# Altium footprint library coil_1.PcbLib: 9 footprints
Each footprint in its own frame and in the unit in brackets; x right, y up, seen from the top. Pads: shape width x height; smd on the part's side, far side on the other; paste and mask are expansions set on the pad; w line width, h text height; cw(c..) or ccw(c..) is an arc to the next point about the centre after c.
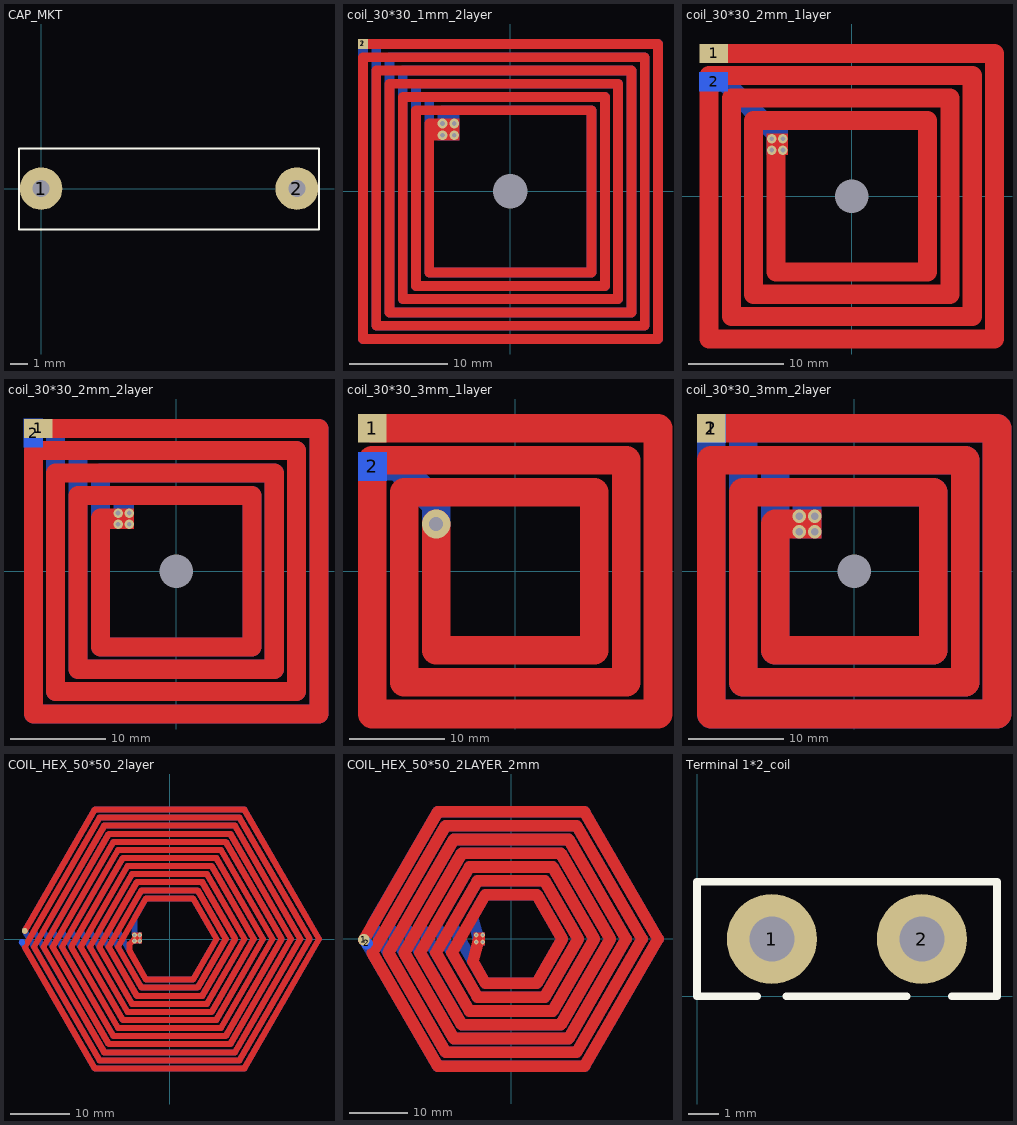
[diagram p0: the footprints below, top view; thin cyan lines are the x and y axes]

## CAP_MKT [mm]
pads (2):
  round 2.5 hole 1: 1(0,0) 2(15,0)
Top Overlay:
  lines w0.127: -1.295,-2.401 -1.295,2.35 16.3,2.35 16.3,-2.401 -1.295,-2.401

## coil_30*30_1mm_2layer [mm]
pads (3):
  rect 1x1 smd mask+0.05: 1(-15,15)
  rect 1x1 smd far side mask+0.05: 2(-15,15)
  round 0 hole 3.5: S(0,0)
via -5.715,5.715 diameter 1 hole 0.5
via -6.9,5.715 diameter 1 hole 0.5
via -5.715,6.9 diameter 1 hole 0.5
via -6.9,6.9 diameter 1 hole 0.5
Top Layer:
  rectangle: -7.9,5.2 -5.2,7.4
  lines w1: -15,15 15,15 15,-15 -15,-15 -15,13.65 13.65,13.65 13.65,-13.65 -13.65,-13.65 -13.65,12.3 12.3,12.3 12.3,-12.3 -12.3,-12.3 -12.3,10.95 10.95,10.95 10.95,-10.95 -10.95,-10.95 -10.95,9.6 9.6,9.6 9.6,-9.6 -9.6,-9.6 -9.6,8.25 8.25,8.25 8.25,-8.25 -8.25,-8.25 -8.25,6.9 -6.9,6.9
Bottom Layer:
  rectangle: -7.4,5.2 -5.2,8.2
  lines w1: -15,15 -15,-15 15,-15 15,15 -13.65,15 -13.65,-13.65 13.65,-13.65 13.65,13.65 -12.3,13.65 -12.3,-12.3 12.3,-12.3 12.3,12.3 -10.95,12.3 -10.95,-10.95 10.95,-10.95 10.95,10.95 -9.6,10.95 -9.6,-9.6 9.6,-9.6 9.6,9.6 -8.25,9.6 -8.25,-8.25 8.25,-8.25 8.25,8.25 -6.9,8.25 -6.9,6.9

## coil_30*30_2mm_1layer [mm]
pads (3):
  rect 3x2 smd mask+0.05: 1(-14.5,15)
  rect 3x2 smd far side mask+0.05: 2(-14.5,12)
  round 0 hole 3.5: S(0,0)
via -7.225,4.84 diameter 1 hole 0.5
via -8.41,4.84 diameter 1 hole 0.5
via -7.225,6.025 diameter 1 hole 0.5
via -8.41,6.025 diameter 1 hole 0.5
Top Layer:
  rectangle: -8.95,4.3 -6.7,6.6
  lines w2: -14.5,15 15,15 15,-15 -15,-15 -15,12.65 12.65,12.65 12.65,-12.65 -12.65,-12.65 -12.65,10.3 10.3,10.3 10.3,-10.3 -10.3,-10.3 -10.3,7.95 7.95,7.95 7.95,-7.95 -7.95,-7.95 -7.95,5.6
Bottom Layer:
  rectangle: -8.95,4.3 -6.7,7
  lines w2: -15,12 -13.397,12 -7.95,6.553 -7.95,5.6

## coil_30*30_2mm_2layer [mm]
pads (3):
  rect 3x2 smd mask+0.05: 1(-14.5,15)
  rect 2x3 smd far side mask+0.05: 2(-15,14.5)
  round 0 hole 3.5: S(0,0)
via -6.1,6.1 diameter 1 hole 0.5
via -4.915,6.1 diameter 1 hole 0.5
via -6.1,4.915 diameter 1 hole 0.5
via -4.915,4.915 diameter 1 hole 0.5
Top Layer:
  rectangle: -7.1,4.4 -4.4,6.6
  lines w2: -14.5,15 15,15 15,-15 -15,-15 -15,12.65 12.65,12.65 12.65,-12.65 -12.65,-12.65 -12.65,10.3 10.3,10.3 10.3,-10.3 -10.3,-10.3 -10.3,7.95 7.95,7.95 7.95,-7.95 -7.95,-7.95 -7.95,5.6 -5.6,5.6
Bottom Layer:
  rectangle: -6.6,4.4 -4.4,7.4
  lines w2: -15,13.97 -15,-15 15,-15 15,15 -12.65,15 -12.65,-12.65 12.65,-12.65 12.65,12.65 -10.3,12.65 -10.3,-10.3 10.3,-10.3 10.3,10.3 -7.95,10.3 -7.95,-7.95 7.95,-7.95 7.95,7.95 -5.6,7.95 -5.6,5.6

## coil_30*30_3mm_1layer [mm]
pads (2):
  rect 3x3 smd mask+0.05: 1(-15,15)
  rect 3x3 smd far side mask+0.05: 2(-15,11)
via -8.3,4.95 diameter 3 hole 1.5
Top Layer:
  lines w3: -15,15 15,15 15,-15 -15,-15 -15,11.65 11.65,11.65 11.65,-11.65 -11.65,-11.65 -11.65,8.3 8.3,8.3 8.3,-8.3 -8.3,-8.3 -8.3,4.95
Bottom Layer:
  lines w3: -15,11 -12.27,11 -8.3,7.03 -8.3,4.95

## coil_30*30_3mm_2layer [mm]
pads (3):
  rect 3x3 smd mask+0.05: 1(-15,15)
  rect 3x3 smd far side mask+0.05: 2(-15,15)
  round 0 hole 3.5: S(0,0)
via -4.15,4.15 diameter 1.4 hole 0.8
via -5.75,5.75 diameter 1.4 hole 0.8
via -4.15,5.75 diameter 1.4 hole 0.8
via -5.75,4.15 diameter 1.4 hole 0.8
Top Layer:
  rectangle: -6.45,3.45 -3.45,6.45
  lines w3: -15,15 15,15 15,-15 -15,-15 -15,11.65 11.65,11.65 11.65,-11.65 -11.65,-11.65 -11.65,8.3 8.3,8.3 8.3,-8.3 -8.3,-8.3 -8.3,4.95 -4.95,4.95
Bottom Layer:
  rectangle: -6.45,3.45 -3.45,6.45
  lines w3: -15,15 -15,-15 15,-15 15,15 -11.65,15 -11.65,-11.65 11.65,-11.65 11.65,11.65 -8.3,11.65 -8.3,-8.3 8.3,-8.3 8.3,8.3 -4.95,8.3 -4.95,4.95

## COIL_HEX_50*50_2layer [mm]
pads (2):
  round 1 smd mask+0.102: 1(-24.217,1.356)
  round 1 smd far side mask+0.102: 2(-24.685,-0.545)
via -5.875,0.65 diameter 0.8 hole 0.4
via -5.875,-0.325 diameter 0.8 hole 0.4
via -4.975,-0.325 diameter 0.8 hole 0.4
via -4.975,0.65 diameter 0.8 hole 0.4
Top Layer:
  rectangle: -6.25,-0.775 -4.575,1.075
  lines w1: -24.217,1.356 -12.5,21.651 12.5,21.651 25,0 12.5,-21.651 -12.5,-21.651 -24.221,-1.35 -11.721,20.301 11.721,20.301 23.441,0 11.721,-20.301 -11.721,-20.301 -22.662,-1.35 -10.941,18.951 10.941,18.951 21.882,0 10.941,-18.951 -10.941,-18.951 -21.103,-1.35 -10.162,17.601 10.162,17.601 20.323,0 10.162,-17.601 -10.162,-17.601 -19.544,-1.35 -9.382,16.251 9.382,16.251 18.765,0 9.382,-16.251 -9.382,-16.251 -17.985,-1.35 -8.603,14.901 8.603,14.901 17.206,0 8.603,-14.901 -8.603,-14.901 -16.426,-1.35 -7.823,13.551 7.823,13.551 15.647,0 7.823,-13.551 -7.823,-13.551 -14.868,-1.35 -7.044,12.201 7.044,12.201 14.088,0 7.044,-12.201 -7.044,-12.201 -13.309,-1.35 -6.265,10.851 6.265,10.851 12.529,0 6.265,-10.851 -6.265,-10.851 -11.75,-1.35 -5.485,9.501 5.485,9.501 10.97,0 5.485,-9.501 -5.485,-9.501 -10.191,-1.35 -4.706,8.151 4.706,8.151 9.412,0 4.706,-8.151 -4.706,-8.151 -8.632,-1.35 -3.926,6.801 3.926,6.801 7.853,0 3.926,-6.801 -3.926,-6.801 -6.678,-2.035 -6.678,-0.828 -5.475,0.375
Bottom Layer:
  rectangle: -6.25,-0.775 -4.575,1.075
  lines w1: -24.685,-0.545 -12.5,-21.651 12.5,-21.651 25,0 12.5,21.651 -12.5,21.651 -24.221,1.35 -11.721,-20.301 11.721,-20.301 23.441,0 11.721,20.301 -11.721,20.301 -22.662,1.35 -10.941,-18.951 10.941,-18.951 21.882,0 10.941,18.951 -10.941,18.951 -21.103,1.35 -10.162,-17.601 10.162,-17.601 20.323,0 10.162,17.601 -10.162,17.601 -19.544,1.35 -9.382,-16.251 9.382,-16.251 18.765,0 9.382,16.251 -9.382,16.251 -17.985,1.35 -8.603,-14.901 8.603,-14.901 17.206,0 8.603,14.901 -8.603,14.901 -16.426,1.35 -7.823,-13.551 7.823,-13.551 15.647,0 7.823,13.551 -7.823,13.551 -14.868,1.35 -7.044,-12.201 7.044,-12.201 14.088,0 7.044,12.201 -7.044,12.201 -13.309,1.35 -6.265,-10.851 6.265,-10.851 12.529,0 6.265,10.851 -6.265,10.851 -11.75,1.35 -5.485,-9.501 5.485,-9.501 10.97,0 5.485,9.501 -5.485,9.501 -10.191,1.35 -4.706,-8.151 4.706,-8.151 9.412,0 4.706,8.151 -4.706,8.151 -8.632,1.35 -3.926,-6.801 3.926,-6.801 7.853,0 3.926,6.801 -3.926,6.801 -5.9,3.382 -5.9,0.825 -5.525,0.45

## COIL_HEX_50*50_2LAYER_2mm [mm]
pads (2):
  round 2 smd mask+0.102: 1(-25.076,-0.131)
  round 2 smd far side mask+0.102: 2(-24.572,-0.742)
via -5.95,-0.5 diameter 0.8 hole 0.4
via -4.85,-0.5 diameter 0.8 hole 0.4
via -4.85,0.675 diameter 0.8 hole 0.4
via -5.95,0.675 diameter 0.8 hole 0.4
Top Layer:
  rectangle: -6.442,-1.08 -4.417,1.12
  lines w2: -25.076,-0.131 -12.5,21.651 12.5,21.651 25,0 12.5,-21.651 -12.5,-21.651 -23.643,-2.35 -11.143,19.301 11.143,19.301 22.286,0 11.143,-19.301 -11.143,-19.301 -20.93,-2.35 -9.786,16.951 9.786,16.951 19.573,0 9.786,-16.951 -9.786,-16.951 -18.216,-2.35 -8.43,14.601 8.43,14.601 16.859,0 8.43,-14.601 -8.43,-14.601 -15.503,-2.35 -7.073,12.251 7.073,12.251 14.146,0 7.073,-12.251 -7.073,-12.251 -12.789,-2.35 -5.716,9.901 5.716,9.901 11.432,0 5.716,-9.901 -5.716,-9.901 -10.075,-2.35 -4.359,7.551 4.359,7.551 8.719,0 4.359,-7.551 -4.359,-7.551 -6.507,-3.832 -5.5,-0.075
Bottom Layer:
  rectangle: -6.45,-1.075 -4.425,1.125
  lines w2: -24.572,-0.742 -12.5,-21.651 12.5,-21.651 25,0 12.5,21.651 -12.5,21.651 -23.643,2.35 -11.143,-19.301 11.143,-19.301 22.286,0 11.143,19.301 -11.143,19.301 -20.93,2.35 -9.786,-16.951 9.786,-16.951 19.573,0 9.786,16.951 -9.786,16.951 -18.216,2.35 -8.43,-14.601 8.43,-14.601 16.859,0 8.43,14.601 -8.43,14.601 -15.503,2.35 -7.073,-12.251 7.073,-12.251 14.146,0 7.073,12.251 -7.073,12.251 -12.789,2.35 -5.716,-9.901 5.716,-9.901 11.432,0 5.716,9.901 -5.716,9.901 -10.075,2.35 -4.359,-7.551 4.359,-7.551 8.719,0 4.359,7.551 -4.359,7.551 -6.574,3.715 -5.625,0.175

## Terminal 1*2_coil [mm]
pads (2):
  round 3 hole 1.5: 1(2.493,1.905) 2(7.493,1.905)
Top Overlay:
  lines w0.254: 2,0 0,0 0,3.81 10,3.81 10,0 8.5,0 ; 2.985,0 6.985,0